# Altium schematic symbol library surfacemountreg.SchLib: 1 symbol
Pins are listed as number, name and electrical type; pins without a type are passive.

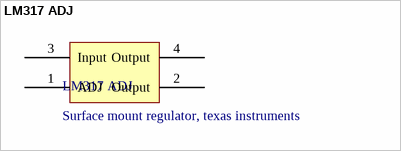
[diagram p0: symbol LM317 ADJ]

## LM317 ADJ
designator LM317 ADJ, comment Surface mount regulator, texas instruments
pins: 1 ADJ (power), 2 Output (power), 3 Input (power), 4 Output (power)